# Altium footprint library Oscillator.PCBLIB: 4 footprints
Each footprint in its own frame and in the unit in brackets; x right, y up, seen from the top. Pads: shape width x height; smd on the part's side, far side on the other; paste and mask are expansions set on the pad; w line width, h text height; cw(c..) or ccw(c..) is an arc to the next point about the centre after c.
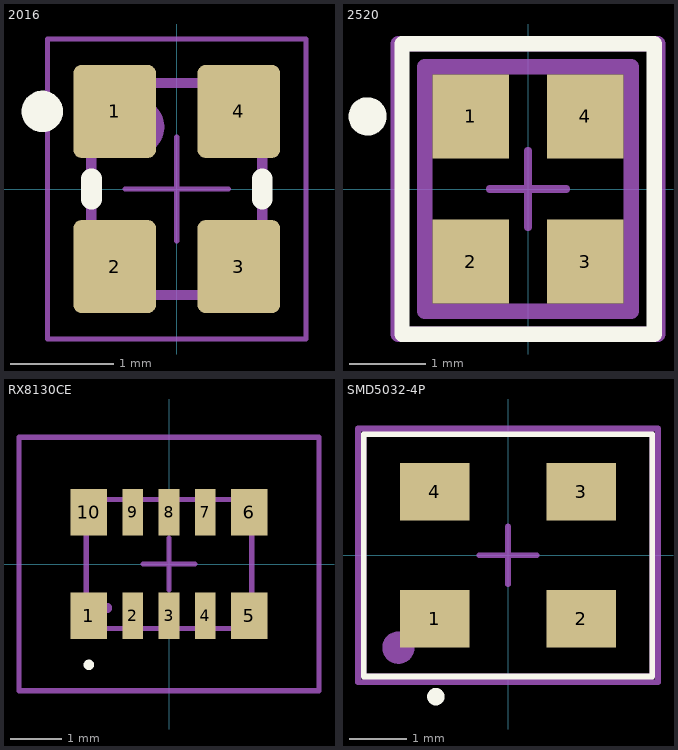
[diagram p0: the footprints below, top view; thin cyan lines are the x and y axes]

## 2016 [mm]
height 0.8
pads (4):
  rrect20% 0.8x0.9 smd: 1(-0.6,0.75) 2(-0.6,-0.75) 3(0.6,-0.75) 4(0.6,0.75)
Top Overlay:
  circle w0.2: c-1.3,0.75 r0.1
  lines w0.2: -0.825,-0.1 -0.825,0.1 ; 0.825,-0.1 0.825,0.1
Top Assembly:
  circle w0.28: c-0.4,0.6 r0.14
  lines w0.1: -0.825,-1.025 -0.825,1.025 0.825,1.025 ; -0.825,-1.025 -0.825,-1.025 ; -0.825,-1.025 0.825,-1.025 0.825,1.025 ; 0.825,1.025 0.825,1.025
Top Courtyard:
  lines w0.05: -1.25,-1.45 1.25,-1.45 1.25,1.45 -1.25,1.45 -1.25,-1.45
Top Designator:
  text ".Designator" at 1.5,-0.5 h1
Top Component Center:
  lines w0.05: -0.5,0 0.5,0 ; 0,-0.5 0,0.5
3D body: height 0.8, standoff 0, extent -0.825,-1.025 0.825,1.025
3D body: height 0.81, standoff 0, extent -0.6,0.4 -0.2,0.8

## 2520 [mm]
pads (4):
  rect 1x1.1 smd paste+0 mask+0: 1(-0.75,0.95) 2(-0.75,-0.95) 3(0.75,-0.95) 4(0.75,0.95)
Top Overlay:
  circle w0.25: c-2.1,0.95 r0.125
  lines w0.2: -1.65,-1.9 -1.65,1.9 1.65,1.9 1.65,-1.9 -1.65,-1.9
Top Assembly:
  circle w0.28: c-0.8,1 r0.14
  lines w0.2: -1.35,-1.6 -1.35,1.6 1.35,1.6 1.35,-1.6 -1.35,-1.6
Top Courtyard:
  lines w0.2: -1.7,-1.9 -1.7,1.9 1.7,1.9 1.7,-1.9 -1.7,-1.9
Top Designator:
  text ".Designator" at 0,0.188 h1
Top Component Center:
  lines w0.1: -0.5,0 0.5,0 ; 0,-0.5 0,0.5
3D body "Crys_SiTime_SIT8918BE-12-18E-25_000000G_eec.STEP": height 0.25, standoff 0, extent -1.35,-1.6 1.35,1.6

## RX8130CE [mm]
pads (10):
  rect 0.7x0.9 smd: 1(-1.55,-1) 5(1.55,-1) 6(1.55,1) 10(-1.55,1)
  rect 0.4x0.9 smd: 2(-0.7,-1) 3(0,-1) 4(0.7,-1) 7(0.7,1) 8(0,1) 9(-0.7,1)
Top Overlay:
  lines w0.1: -1.55,-2 ccw(c-1.55,-1.95) -1.55,-1.9 ccw(c-1.55,-1.95) -1.55,-2
Top Assembly:
  lines w0.1: -1.6,-1.25 1.6,-1.25 1.6,1.25 -1.6,1.25 -1.6,-1.25 ; -1.2,-0.9 ccw(c-1.2,-0.85) -1.2,-0.8 ccw(c-1.2,-0.85) -1.2,-0.9
Top Courtyard:
  lines w0.1: -2.9,-2.45 2.9,-2.45 2.9,2.45 -2.9,2.45 -2.9,-2.45
Top Designator:
  text ".Designator" at -2.2,2.788 h1
Top Component Center:
  lines w0.1: -0.5,0 0.5,0 ; 0,-0.5 0,0.5
3D body "RX8130CE_BB.stp": height 1.1, standoff 0, extent -1.6,-1.25 1.6,1.25

## SMD5032-4P [mm]
pads (4):
  rect 1.2x1 smd: 1(-1.27,-1.1) 2(1.27,-1.1) 3(1.27,1.1) 4(-1.27,1.1)
Top Overlay:
  lines w0.1: -2.5,-2.1 -2.5,2.1 2.5,2.1 2.5,-2.1 -2.5,-2.1
  lines w0.2: -1.25,-2.5 cw(c-1.25,-2.45) -1.25,-2.4 ; -1.25,-2.5 ccw(c-1.25,-2.45) -1.25,-2.4 ; -1.25,-2.5 -1.25,-2.4
Top Assembly:
  circle w0.28: c-1.9,-1.6 r0.14
  lines w0.1: -2.5,-2.1 -2.5,2.1 2.5,2.1 2.5,-2.1 -2.5,-2.1
Top Courtyard:
  lines w0.1: -2.6,-2.2 -2.6,2.2 2.6,2.2 2.6,-2.2 -2.6,-2.2
Top Designator:
  text ".Designator" at -2.1,2.288 h1
Top Component Center:
  lines w0.1: -0.5,0 0.5,0 ; 0,-0.5 0,0.5
3D body "SG-8018CB_25.0000M-TJHPA3.stp": height 1.2, standoff 0, extent -2.5,-1.7 2.5,1.7